# Altium schematic symbol library LM317L.Schlib: 1 symbol
Pins are listed as number, name and electrical type; pins without a type are passive.

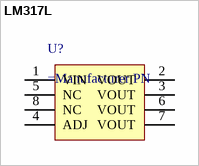
[diagram p0: symbol LM317L]

## LM317L
designator U?
Linear Regulator, 8-pin Package
pins: 1 VIN, 2 VOUT, 3 VOUT, 4 ADJ, 5 NC, 6 VOUT, 7 VOUT, 8 NC